# EAGLE library part FDS3992 (library di_transistors)
FAIRCHILD FDS3992 - Dual N-Channel PowerTrench® MOSFET 100V, 4.5A, 62m? http://www.fairchildsemi.com/ds/FD/FDS3992.pdf
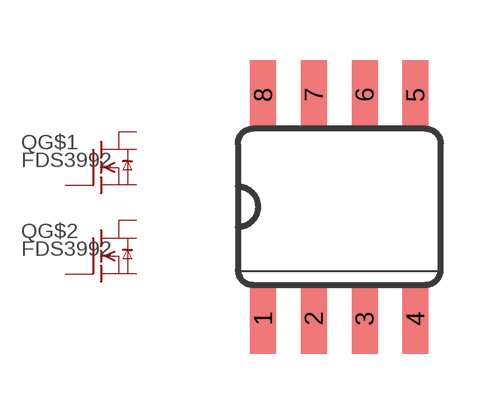
[diagram p0: symbol with the pads of SO08N; footprint SO08N]

Designator prefix Q; gates G$1=N-CHANNEL_MOSFET_DUAL_DRAIN G$2=N-CHANNEL_MOSFET_DUAL_DRAIN

## FDS3992  [SO08N]
1  G$1:S  pas
2  G$1:G  pas
3  G$2:S  pas
4  G$2:G  pas
5  G$2:D2  pas
6  G$2:D1  pas
7  G$1:D2  pas
8  G$1:D1  pas

## Footprint SO08N (pad centres in mm)
smd 0.65 x 1.75: 1 -1.905,-2.8; 2 -0.635,-2.8; 3 0.635,-2.8; 4 1.905,-2.8; 5 1.905,2.8; 6 0.635,2.8; 7 -0.635,2.8; 8 -1.905,2.8